# EAGLE library part LCD (library BaseApp)
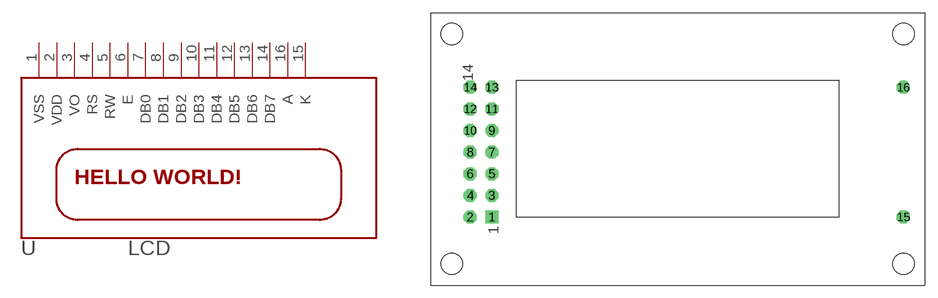
[diagram p35: symbol with the pads of LCD-8X2; footprint LCD-8X2]

Designator prefix -

## LCD  [LCD-8X2]
1  VSS  sup
2  VDD  sup
3  VO  in
4  RS  in
5  RW  in
6  E  in
7  DB0
8  DB1
9  DB2
10  DB3
11  DB4
12  DB5
13  DB6
14  DB7
15  K  in
16  A  in

## Footprint LCD-8X2 (pad centres in mm)
drill 1.016 square: 1 7.19,8
drill 1.016 octagon: 2 4.65,8; 3 7.19,10.54; 4 4.65,10.54; 5 7.19,13.08; 6 4.65,13.08; 7 7.19,15.62; 8 4.65,15.62; 9 7.19,18.16; 10 4.65,18.16; 11 7.19,20.7; 12 4.65,20.7; 13 7.19,23.24; 14 4.65,23.24; 15 55.5,8; 16 55.5,23.24
hole 2.5 at 2.5,2.5
hole 2.5 at 55.5,2.5
hole 2.5 at 2.5,29.5
hole 2.5 at 55.5,29.5